# Altium schematic symbol library pcal9535apw,118.SchLib: 1 symbol
Pins are listed as number, name and electrical type; pins without a type are passive.

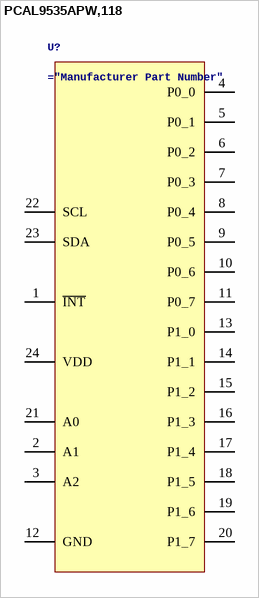
[diagram p0: symbol PCAL9535APW,118]

## PCAL9535APW,118
designator U?
I/O Expander 16 I2C, SMBus 400 kHz 24-TSSOP
pins: 1 ~{INT}, 2 A1, 3 A2, 4 P0_0, 5 P0_1, 6 P0_2, 7 P0_3, 8 P0_4, 9 P0_5, 10 P0_6, 11 P0_7, 12 GND, 13 P1_0, 14 P1_1, 15 P1_2, 16 P1_3, 17 P1_4, 18 P1_5, 19 P1_6, 20 P1_7, 21 A0, 22 SCL, 23 SDA, 24 VDD